# Altium schematic symbol library ADR431.SchLib: 1 symbol
Pins are listed as number, name and electrical type; pins without a type are passive.

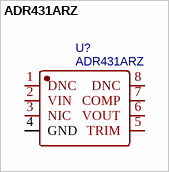
[diagram p0: symbol ADR431ARZ]

## ADR431ARZ
designator U?
2.5V电压基准; Manufacturer: ADI(亚德诺); Manufacturer Part: ADR431ARZ-REEL7; Contributor: LCSC; Supplier: LCSC; Supplier Part: C659547; JLCPCB Part Class: Extended Part; spicePre: U; spiceSymbolName: ADR431ARZ-REEL7
footprint SOIC-8_L4.9-W3.9-P1.27-LS6.0-BL
pins: 1 DNC, 2 VIN, 3 NIC, 4 GND, 5 TRIM, 6 VOUT, 7 COMP, 8 DNC